# EAGLE library part MEC1-150-2-F-D-RA (library Samtec MEC1 - Card Edge Connector)
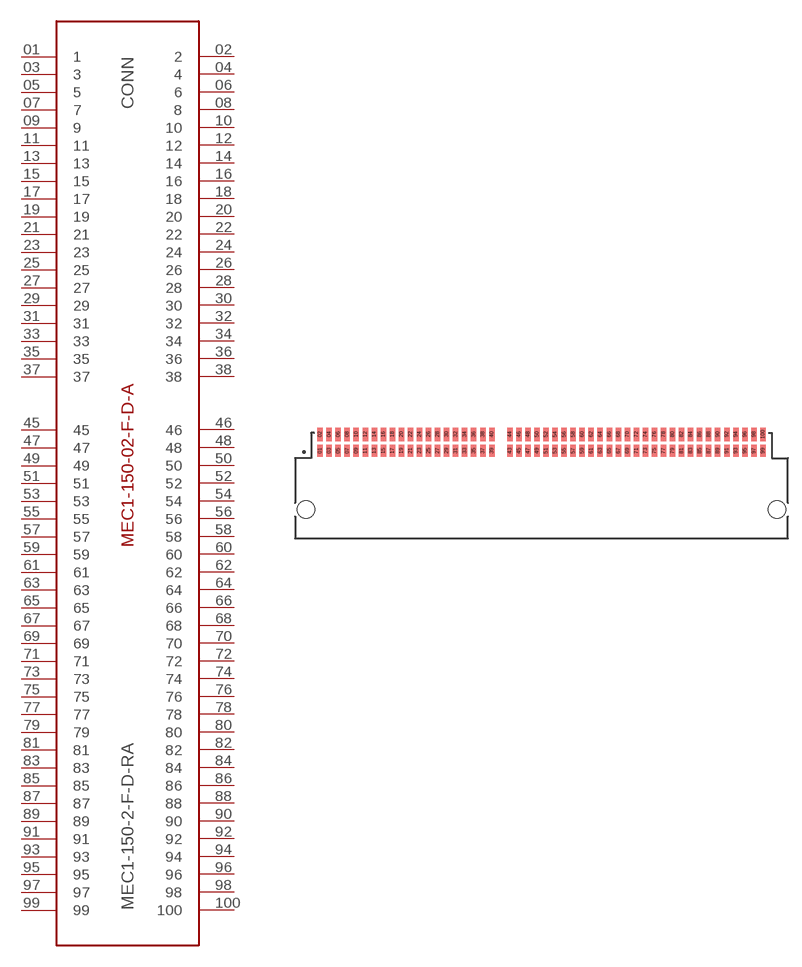
[diagram p2: symbol with the pads of SAMTEC_MEC1-150-2-F-D-RA1; footprint SAMTEC_MEC1-150-2-F-D-RA1]

Designator prefix CONN

## MEC1-150-2-F-D-RA  [SAMTEC_MEC1-150-2-F-D-RA1]
01  1  pas
02  2  pas
03  3  pas
04  4  pas
05  5  pas
06  6  pas
07  7  pas
08  8  pas
09  9  pas
10  10  pas
11  11  pas
12  12  pas
13  13  pas
14  14  pas
15  15  pas
16  16  pas
17  17  pas
18  18  pas
19  19  pas
20  20  pas
21  21  pas
22  22  pas
23  23  pas
24  24  pas
25  25  pas
26  26  pas
27  27  pas
28  28  pas
29  29  pas
30  30  pas
31  31  pas
32  32  pas
33  33  pas
34  34  pas
35  35  pas
36  36  pas
37  37  pas
38  38  pas
45  45  pas
46  46  pas
47  47  pas
48  48  pas
49  49  pas
50  50  pas
51  51  pas
52  52  pas
53  53  pas
54  54  pas
55  55  pas
56  56  pas
57  57  pas
58  58  pas
59  59  pas
60  60  pas
61  61  pas
62  62  pas
63  63  pas
64  64  pas
65  65  pas
66  66  pas
67  67  pas
68  68  pas
69  69  pas
70  70  pas
71  71  pas
72  72  pas
73  73  pas
74  74  pas
75  75  pas
76  76  pas
77  77  pas
78  78  pas
79  79  pas
80  80  pas
81  81  pas
82  82  pas
83  83  pas
84  84  pas
85  85  pas
86  86  pas
87  87  pas
88  88  pas
89  89  pas
90  90  pas
91  91  pas
92  92  pas
93  93  pas
94  94  pas
95  95  pas
96  96  pas
97  97  pas
98  98  pas
99  99  pas
100  100  pas

## Footprint SAMTEC_MEC1-150-2-F-D-RA1 (pad centres in mm)
smd 0.61 x 1.35: 01 -25.77,5.247; 03 -24.77,5.247; 05 -23.77,5.247; 07 -22.77,5.247; 09 -21.77,5.247; 11 -20.77,5.247; 13 -19.77,5.247; 15 -18.77,5.247; 17 -17.77,5.247; 19 -16.77,5.247; 21 -15.77,5.247; 23 -14.77,5.247; 25 -13.77,5.247; 27 -12.77,5.247; 29 -11.77,5.247; 31 -10.77,5.247; 33 -9.77,5.247; 35 -8.77,5.247; 37 -7.77,5.247; 39 -6.77,5.247; 43 -4.77,5.247; 45 -3.77,5.247; 47 -2.77,5.247; 49 -1.77,5.247; 51 -0.77,5.247; 53 0.23,5.247; 55 1.23,5.247; 57 2.23,5.247; 59 3.23,5.247; 61 4.23,5.247; 63 5.23,5.247; 65 6.23,5.247; 67 7.23,5.247; 69 8.23,5.247; 71 9.23,5.247; 73 10.23,5.247; 75 11.23,5.247; 77 12.23,5.247; 79 13.23,5.247; 81 14.23,5.247; 83 15.23,5.247; 85 16.23,5.247; 87 17.23,5.247; 89 18.23,5.247; 91 19.23,5.247; 93 20.23,5.247; 95 21.23,5.247; 97 22.23,5.247; 99 23.23,5.247
smd 0.61 x 1.52: 02 -25.77,7.062; 04 -24.77,7.062; 06 -23.77,7.062; 08 -22.77,7.062; 10 -21.77,7.062; 12 -20.77,7.062; 14 -19.77,7.062; 16 -18.77,7.062; 18 -17.77,7.062; 20 -16.77,7.062; 22 -15.77,7.062; 24 -14.77,7.062; 26 -13.77,7.062; 28 -12.77,7.062; 30 -11.77,7.062; 32 -10.77,7.062; 34 -9.77,7.062; 36 -8.77,7.062; 38 -7.77,7.062; 40 -6.77,7.062; 44 -4.77,7.062; 46 -3.77,7.062; 48 -2.77,7.062; 50 -1.77,7.062; 52 -0.77,7.062; 54 0.23,7.062; 56 1.23,7.062; 58 2.23,7.062; 60 3.23,7.062; 62 4.23,7.062; 64 5.23,7.062; 66 6.23,7.062; 68 7.23,7.062; 70 8.23,7.062; 72 9.23,7.062; 74 10.23,7.062; 76 11.23,7.062; 78 12.23,7.062; 80 13.23,7.062; 82 14.23,7.062; 84 15.23,7.062; 86 16.23,7.062; 88 17.23,7.062; 90 18.23,7.062; 92 19.23,7.062; 94 20.23,7.062; 96 21.23,7.062; 98 22.23,7.062; 100 23.23,7.062
hole 1.93 at -27.305,-1.27
hole 1.93 at 24.765,-1.27